# Altium schematic symbol library Connor Winfield.SchLib: 2 symbols
Pins are listed as number, name and electrical type; pins without a type are passive.

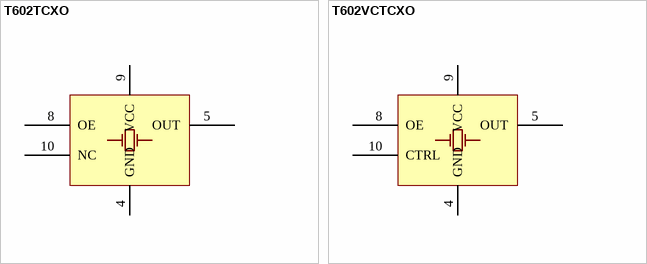
[diagram p0: symbols T602TCXO to T602VCTCXO]

## T602TCXO
designator Y?, comment T602
pins: 4 GND, 5 OUT, 8 OE, 9 VCC, 10 NC

## T602VCTCXO
designator Y?, comment T602
pins: 4 GND, 5 OUT, 8 OE, 9 VCC, 10 CTRL